# EAGLE library part LMP91000_NHL_14 (library LMP91000)
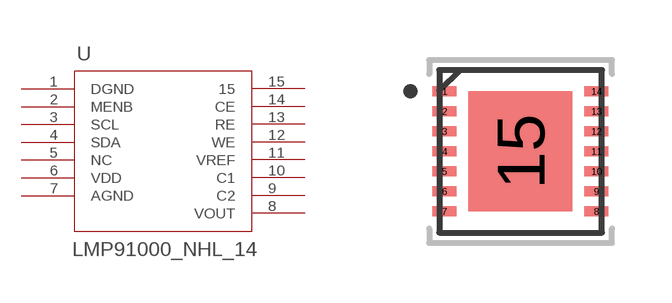
[diagram p0: symbol with the pads of SDA14B; footprint SDA14B]

Designator prefix U

## LMP91000_NHL_14 (BASEPN: LMP91000; DATASHEETURL: http://www.ti.com/lit/ds/symlink/lmp91000.pdf; DESCRIPTION: Configurable AFE Potentiostat for Low-Power Chemical Sensing Applications; MANUFACTURER: Texas Instruments; MANUFACTURER_PART_NUMBER: lmp91000_nhl_14; NSC_PACKAGEREFERENCE: SDA14B; VENDOR: Texas Instruments)  [SDA14B]
1  DGND  pwr
2  MENB  pas
3  SCL  pas
4  SDA  pas
5  NC  nc
6  VDD  pwr
7  AGND  pwr
8  VOUT  out
9  C2  pas
10  C1  pas
11  VREF  in
12  WE  out
13  RE  in
14  CE  out
15  15  pas

## Footprint SDA14B (pad centres in mm)
smd 0.6 x 0.25: 1 -1.9,1.5; 2 -1.9,1; 3 -1.9,0.5; 4 -1.9,0; 5 -1.9,-0.5; 6 -1.9,-1; 7 -1.9,-1.5; 8 1.9,-1.5; 9 1.9,-1; 10 1.9,-0.5; 11 1.9,0; 12 1.9,0.5; 13 1.9,1; 14 1.9,1.5
smd 2.6 x 3: 15 0,0